# EAGLE library part ADAFRUIT_SI1145_BREAKOUT (library BLE_sensor_pack_parts)
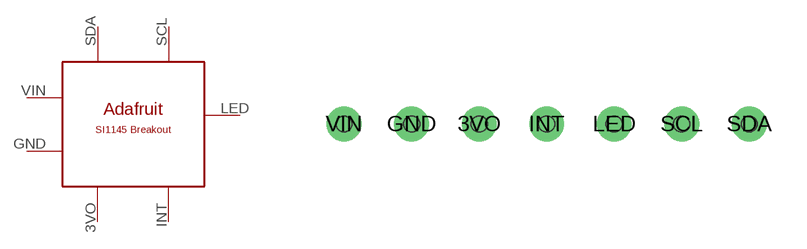
[diagram p1: symbol with the pads of ADAFRUIT_SI1145_BREAKOUT_HEADERS; footprint ADAFRUIT_SI1145_BREAKOUT_HEADERS]

Designator prefix -

## ADAFRUIT_SI1145_BREAKOUT  [ADAFRUIT_SI1145_BREAKOUT_HEADERS]
3VO  3VO  pwr
GND  GND  pwr
INT  INT  out
LED  LED  out
SCL  SCL
SDA  SDA
VIN  VIN  pwr

## Footprint ADAFRUIT_SI1145_BREAKOUT_HEADERS (pad centres in mm)
drill 0.8: 3VO 5.08,0; GND 2.54,0; INT 7.62,0; LED 10.16,0; SCL 12.7,0; SDA 15.24,0; VIN 0,0
hole 0.6 at 0,0
hole 0.6 at 2.54,0
hole 0.6 at 5.08,0
hole 0.6 at 7.62,0
hole 0.6 at 10.16,0
hole 0.6 at 12.7,0
hole 0.6 at 15.24,0